# EAGLE library part LM358 (library untitled)
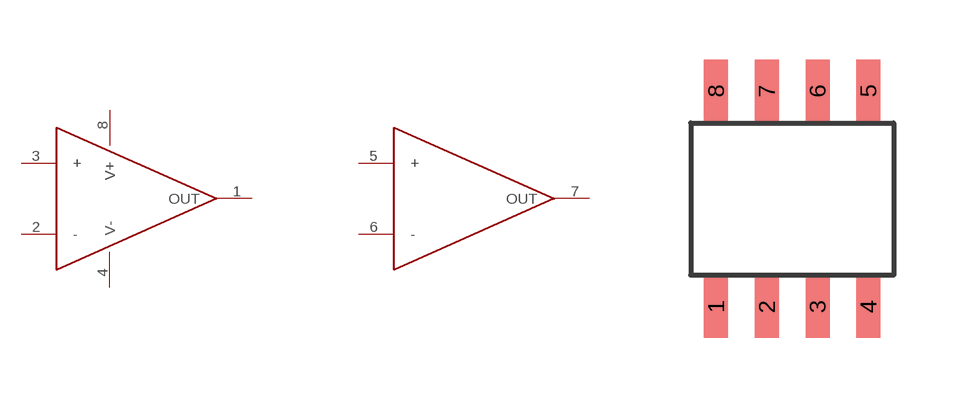
[diagram p33: symbol with the pads of SO8; footprint SO8]

Designator prefix -; gates G$1=OPAMP_V+- G$2=OPAMP

## LM358  [SO8]
1  G$1:OUT
2  G$1:-
3  G$1:+
4  G$1:V-
5  G$2:+
6  G$2:-
7  G$2:OUT
8  G$1:V+

## Footprint SO8 (pad centres in mm)
smd 0.6 x 1.55: 1 -1.905,-2.69; 2 -0.635,-2.69; 3 0.635,-2.69; 4 1.905,-2.69; 5 1.905,2.71; 6 0.635,2.71; 7 -0.635,2.71; 8 -1.905,2.71